# Altium integrated library Actel Fusion.IntLib: 336 symbols (part 45 of 72)
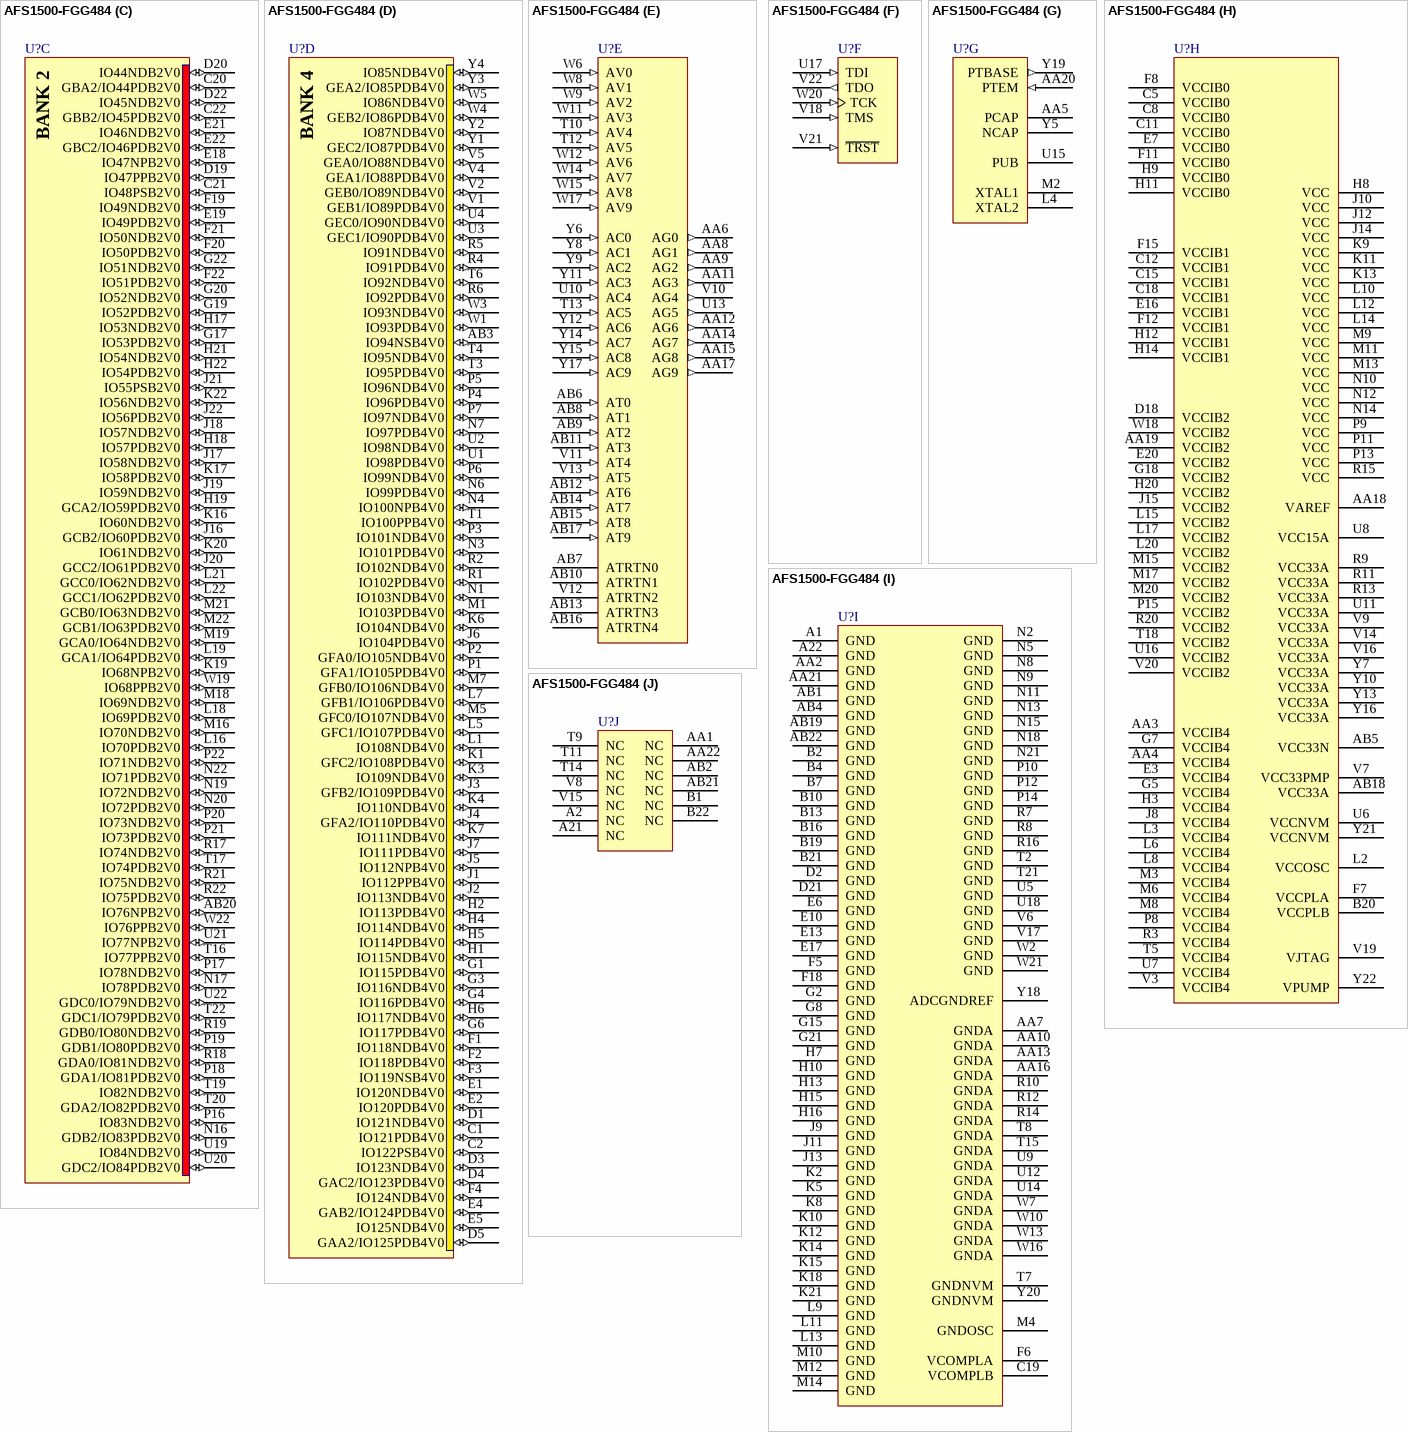
[diagram p321: symbol AFS1500-FGG484]

## AFS1500-FGG484
designator U?
3.3V Fusion Mixed Signal Flash FPGA, 1.5 Million System Gates, 484-Pin FBGA, Commercial Grade, Pb-Free; Published: 17-Aug-2007; LatestRevisionDate: 14-Dec-2007; LatestRevisionNote: Pin AB18 renamed to "VCC33A".; DatasheetVersion: ver1.7, Oct-2008; PackageVersion: v11.0, Feb-2009; PackageReference: FG484; Publisher: Altium Limited; PackageDescription: 484-Ball Fine Pitch Plastic Ball Grid Array (FG484) - Fully Populated; Code_JEDEC: MS-034-AAJ-1; Code_IPC: BGA100P22X22-484; ComponentLink1Description: Manufacturer Link; ComponentLink1URL: http://www.actel.com/products/fusion/; ComponentLink2Description: Datasheet; ComponentLink2URL: http://www.actel.com/documents/Fusion_DS.pdf; ComponentLink3Description: Packaging Specification; ComponentLink3URL: http://www.actel.com/documents/PckgMechDrwngs.pdf
footprint FG484 (BGA, 484-Leads, Body 23x23mm, Pitch 1mm)
3D model AFS1500-FG484 (484-Ball Fine Pitch Plastic Ball Grid Array (FG484) - Fully Populated)
signal-integrity model AFS1500_FG484 (Fusion)
part A pins: A3 GAA1/IO01PDB0V0 (io), A4 GAB0/IO02NDB0V0 (io), A5 GAB1/IO02PDB0V0 (io), A6 IO07NDB0V1 (io), A7 IO07PDB0V1 (io), A8 IO09PDB0V1 (io), A9 IO13NDB0V2 (io), A10 IO13PDB0V2 (io), B3 GAA0/IO01NDB0V0 (io), B5 IO04NDB0V0 (io), B6 IO04PDB0V0 (io), B8 IO09NDB0V1 (io), B9 IO11PDB0V1 (io), C3 IO00NDB0V0 (io), C4 IO00PDB0V0 (io), C6 IO05NDB0V1 (io), C7 IO05PDB0V1 (io), C9 IO11NDB0V1 (io), C10 IO14PDB0V2 (io), D6 GAC0/IO03NDB0V0 (io), D7 GAC1/IO03PDB0V0 (io), D8 IO10NDB0V1 (io), D9 IO10PDB0V1 (io), D10 IO14NDB0V2 (io), E8 IO08NDB0V1 (io), E9 IO08PDB0V1 (io), F9 IO12NDB0V1 (io), F10 IO12PDB0V1 (io), G9 IO06NDB0V1 (io), G10 IO06PDB0V1 (io), G11 IO16NDB0V2 (io), G12 IO16PDB0V2 (io)
part B pins: A11 IO24PDB1V0 (io), A12 IO26PDB1V0 (io), A13 IO27NDB1V1 (io), A14 IO27PDB1V1 (io), A15 IO35NDB1V2 (io), A16 IO35PDB1V2 (io), A17 GBC0/IO40NDB1V2 (io), A18 GBA0/IO42NDB1V2 (io), A19 IO43NDB1V2 (io), A20 IO43PDB1V2 (io), B11 IO24NDB1V0 (io), B12 IO26NDB1V0 (io), B14 IO31NDB1V1 (io), B15 IO31PDB1V1 (io), B17 GBC1/IO40PDB1V2 (io), B18 GBA1/IO42PDB1V2 (io), C13 IO29NDB1V1 (io), C14 IO29PDB1V1 (io), C16 IO37NDB1V2 (io), C17 GBB0/IO41NDB1V2 (io), D11 IO23NDB1V0 (io), D12 IO23PDB1V0 (io), D13 IO32NPB1V1 (io), D14 IO34NDB1V1 (io), D15 IO34PDB1V1 (io), D16 IO37PDB1V2 (io), D17 GBB1/IO41PDB1V2 (io), E11 IO22NDB1V0 (io), E12 IO22PDB1V0 (io), E14 IO32PPB1V1 (io), E15 IO36NPB1V2 (io), F13 IO30NDB1V1 (io), F14 IO30PDB1V1 (io), F16 IO36PPB1V2 (io), F17 IO38NPB1V2 (io), G13 IO28NDB1V1 (io), G14 IO28PDB1V1 (io), G16 IO38PPB1V2 (io)
part C pins: AB20 IO76NPB2V0 (io), C20 GBA2/IO44PDB2V0 (io), C21 IO48PSB2V0 (io), C22 GBB2/IO45PDB2V0 (io), D19 IO47PPB2V0 (io), D20 IO44NDB2V0 (io), D22 IO45NDB2V0 (io), E18 IO47NPB2V0 (io), E19 IO49PDB2V0 (io), E21 IO46NDB2V0 (io), E22 GBC2/IO46PDB2V0 (io), F19 IO49NDB2V0 (io), F20 IO50PDB2V0 (io), F21 IO50NDB2V0 (io), F22 IO51PDB2V0 (io), G17 IO53PDB2V0 (io), G19 IO52PDB2V0 (io), G20 IO52NDB2V0 (io), G22 IO51NDB2V0 (io), H17 IO53NDB2V0 (io), H18 IO57PDB2V0 (io), H19 GCA2/IO59PDB2V0 (io), H21 IO54NDB2V0 (io), H22 IO54PDB2V0 (io), J16 GCB2/IO60PDB2V0 (io), J17 IO58NDB2V0 (io), J18 IO57NDB2V0 (io), J19 IO59NDB2V0 (io), J20 GCC2/IO61PDB2V0 (io), J21 IO55PSB2V0 (io), J22 IO56PDB2V0 (io), K16 IO60NDB2V0 (io), K17 IO58PDB2V0 (io), K19 IO68NPB2V0 (io), K20 IO61NDB2V0 (io), K22 IO56NDB2V0 (io), L16 IO70PDB2V0 (io), L18 IO69PDB2V0 (io), L19 GCA1/IO64PDB2V0 (io), L21 GCC0/IO62NDB2V0 (io), L22 GCC1/IO62PDB2V0 (io), M16 IO70NDB2V0 (io), M18 IO69NDB2V0 (io), M19 GCA0/IO64NDB2V0 (io), M21 GCB0/IO63NDB2V0 (io), M22 GCB1/IO63PDB2V0 (io), N16 GDB2/IO83PDB2V0 (io), N17 IO78PDB2V0 (io), N19 IO72NDB2V0 (io), N20 IO72PDB2V0 (io), N22 IO71PDB2V0 (io), P16 IO83NDB2V0 (io), P17 IO78NDB2V0 (io), P18 GDA1/IO81PDB2V0 (io), P19 GDB1/IO80PDB2V0 (io), P20 IO73NDB2V0 (io), P21 IO73PDB2V0 (io), P22 IO71NDB2V0 (io), R17 IO74NDB2V0 (io), R18 GDA0/IO81NDB2V0 (io), R19 GDB0/IO80NDB2V0 (io), R21 IO75NDB2V0 (io), R22 IO75PDB2V0 (io), T16 IO77PPB2V0 (io), T17 IO74PDB2V0 (io), T19 IO82NDB2V0 (io), T20 GDA2/IO82PDB2V0 (io), T22 GDC1/IO79PDB2V0 (io), U19 IO84NDB2V0 (io), U20 GDC2/IO84PDB2V0 (io), U21 IO77NPB2V0 (io), U22 GDC0/IO79NDB2V0 (io), W19 IO68PPB2V0 (io), W22 IO76PPB2V0 (io)
part D pins: AB3 IO94NSB4V0 (io), C1 IO121PDB4V0 (io), C2 IO122PSB4V0 (io), D1 IO121NDB4V0 (io), D3 IO123NDB4V0 (io), D4 GAC2/IO123PDB4V0 (io), D5 GAA2/IO125PDB4V0 (io), E1 IO120NDB4V0 (io), E2 IO120PDB4V0 (io), E4 GAB2/IO124PDB4V0 (io), E5 IO125NDB4V0 (io), F1 IO118NDB4V0 (io), F2 IO118PDB4V0 (io), F3 IO119NSB4V0 (io), F4 IO124NDB4V0 (io), G1 IO115PDB4V0 (io), G3 IO116NDB4V0 (io), G4 IO116PDB4V0 (io), G6 IO117PDB4V0 (io), H1 IO115NDB4V0 (io), H2 IO113PDB4V0 (io), H4 IO114NDB4V0 (io), H5 IO114PDB4V0 (io), H6 IO117NDB4V0 (io), J1 IO112PPB4V0 (io), J2 IO113NDB4V0 (io), J3 GFB2/IO109PDB4V0 (io), J4 GFA2/IO110PDB4V0 (io), J5 IO112NPB4V0 (io), J6 IO104PDB4V0 (io), J7 IO111PDB4V0 (io), K1 GFC2/IO108PDB4V0 (io), K3 IO109NDB4V0 (io), K4 IO110NDB4V0 (io), K6 IO104NDB4V0 (io), K7 IO111NDB4V0 (io), L1 IO108NDB4V0 (io), L5 GFC1/IO107PDB4V0 (io), L7 GFB1/IO106PDB4V0 (io), M1 IO103PDB4V0 (io), M5 GFC0/IO107NDB4V0 (io), M7 GFB0/IO106NDB4V0 (io), N1 IO103NDB4V0 (io), N3 IO101PDB4V0 (io), N4 IO100NPB4V0 (io), N6 IO99PDB4V0 (io), N7 IO97PDB4V0 (io), P1 GFA1/IO105PDB4V0 (io), P2 GFA0/IO105NDB4V0 (io), P3 IO101NDB4V0 (io), P4 IO96PDB4V0 (io), P5 IO96NDB4V0 (io), P6 IO99NDB4V0 (io), P7 IO97NDB4V0 (io), R1 IO102PDB4V0 (io), R2 IO102NDB4V0 (io), R4 IO91PDB4V0 (io), R5 IO91NDB4V0 (io), R6 IO92PDB4V0 (io), T1 IO100PPB4V0 (io), T3 IO95PDB4V0 (io), T4 IO95NDB4V0 (io), T6 IO92NDB4V0 (io), U1 IO98PDB4V0 (io), U2 IO98NDB4V0 (io), U3 GEC1/IO90PDB4V0 (io), U4 GEC0/IO90NDB4V0 (io), V1 GEB1/IO89PDB4V0 (io), V2 GEB0/IO89NDB4V0 (io), V4 GEA1/IO88PDB4V0 (io), V5 GEA0/IO88NDB4V0 (io), W1 IO93PDB4V0 (io), W3 IO93NDB4V0 (io), W4 GEB2/IO86PDB4V0 (io), W5 IO86NDB4V0 (io), Y1 GEC2/IO87PDB4V0 (io), Y2 IO87NDB4V0 (io), Y3 GEA2/IO85PDB4V0 (io), Y4 IO85NDB4V0 (io)
part E pins: AA6 AG0 (out) "Analog gate driver pad 0.", AA8 AG1 (out) "Analog gate driver pad 1.", AA9 AG2 (out) "Analog gate driver pad 2.", AA11 AG3 (out) "Analog gate driver pad 3.", AA12 AG6 (out) "Analog gate driver pad 6.", AA14 AG7 (out) "Analog gate driver pad 7.", AA15 AG8 (out) "Analog gate driver pad 8.", AA17 AG9 (out) "Analog gate driver pad 9.", AB6 AT0 (in) "Analog temperature pad 0.", AB7 ATRTN0 "Temperature monitor return 0.", AB8 AT1 (in) "Analog temperature pad 1.", AB9 AT2 (in) "Analog temperature pad 2.", AB10 ATRTN1 "Temperature monitor return 1.", AB11 AT3 (in) "Analog temperature pad 3.", AB12 AT6 (in) "Analog temperature pad 6.", AB13 ATRTN3 "Temperature monitor return 3.", AB14 AT7 (in) "Analog temperature pad 7.", AB15 AT8 (in) "Analog temperature pad 8.", AB16 ATRTN4 "Temperature monitor return 4.", AB17 AT9 (in) "Analog temperature pad 9.", T10 AV4 (in) "Analog voltage pad 4.", T12 AV5 (in) "Analog voltage pad 5.", T13 AC5 (in) "Analog current pad 5.", U10 AC4 (in) "Analog current pad 4.", U13 AG5 (out) "Analog gate driver pad 5.", V10 AG4 (out) "Analog gate driver pad 4.", V11 AT4 (in) "Analog temperature pad 4.", V12 ATRTN2 "Temperature monitor return 2.", V13 AT5 (in) "Analog temperature pad 5.", W6 AV0 (in) "Analog voltage pad 0.", W8 AV1 (in) "Analog voltage pad 1.", W9 AV2 (in) "Analog voltage pad 2.", W11 AV3 (in) "Analog voltage pad 3.", W12 AV6 (in) "Analog voltage pad 6.", W14 AV7 (in) "Analog voltage pad 7.", W15 AV8 (in) "Analog voltage pad 8.", W17 AV9 (in) "Analog voltage pad 9.", Y6 AC0 (in) "Analog current pad 0.", Y8 AC1 (in) "Analog current pad 1.", Y9 AC2 (in) "Analog current pad 2.", Y11 AC3 (in) "Analog current pad 3.", Y12 AC6 (in) "Analog current pad 6.", Y14 AC7 (in) "Analog current pad 7.", Y15 AC8 (in) "Analog current pad 8.", Y17 AC9 (in) "Analog current pad 9."
part F pins: U17 TDI (in), V18 TMS (in), V21 ~{TRST} (in), V22 TDO (out), W20 TCK (in)
part G pins: AA5 PCAP "POSITIVE CAPACITOR - where the positive terminal of the charge pump capacitor is connected.", AA20 PTEM (in) "PASS TRANSISTOR EMITTER - The feedback input of the voltage regulator.", L4 XTAL2 "Input to crystal oscillator - If using external RC network or clock input, XTAL1 should be used and XTAL2 left unconnected.", M2 XTAL1 "Input to crystal oscillator - If using external RC network or clock input, XTAL1 should be used and XTAL2 left unconnected.", U15 PUB "Power up bar - for the external momentary switch which turns on the 1.5V regulator.", Y5 NCAP "NEGATIVE CAPACITOR - where the negative terminal of the charge pump capacitor is connected.", Y19 PTBASE (out) "PASS TRANSISTOR BASE - The control signal of the voltage regulator."
part H pins: AA3 VCCIB4 (power) "Quiet supply voltage to the input buffers of bank 4.", AA4 VCCIB4 (power), AA18 VAREF (power) "Analog reference voltage to be used by analog to digital converter.", AA19 VCCIB2 (power), AB5 VCC33N (power) "-3.3V output from the voltage converter. A 2.2µF capacitor must be connected from this pin to ground.", AB18 VCC33A (power) "Analog power pin for the analog power supply low pass filter. An external 1µF capacitor should be connected between this pin and ground.", B20 VCCPLB (power), C5 VCCIB0 (power), C8 VCCIB0 (power), C11 VCCIB0 (power), C12 VCCIB1 (power), C15 VCCIB1 (power), C18 VCCIB1 (power), D18 VCCIB2 (power) "Quiet supply voltage to the input buffers of bank 2.", E3 VCCIB4 (power), E7 VCCIB0 (power), E16 VCCIB1 (power), E20 VCCIB2 (power), F7 VCCPLA (power), F8 VCCIB0 (power) "Quiet supply voltage to the input buffers of bank 0.", F11 VCCIB0 (power), F12 VCCIB1 (power), F15 VCCIB1 (power) "Quiet supply voltage to the input buffers of bank 1.", G5 VCCIB4 (power), G7 VCCIB4 (power) "Quiet supply voltage to the input buffers of bank 4.", G18 VCCIB2 (power), H3 VCCIB4 (power), H8 VCC (power), H9 VCCIB0 (power), H11 VCCIB0 (power), H12 VCCIB1 (power), H14 VCCIB1 (power), H20 VCCIB2 (power), J8 VCCIB4 (power), J10 VCC (power), J12 VCC (power), J14 VCC (power), J15 VCCIB2 (power), K9 VCC (power), K11 VCC (power), K13 VCC (power), L2 VCCOSC (power), L3 VCCIB4 (power), L6 VCCIB4 (power), L8 VCCIB4 (power), L10 VCC (power), L12 VCC (power), L14 VCC (power), L15 VCCIB2 (power), L17 VCCIB2 (power), L20 VCCIB2 (power), M3 VCCIB4 (power), M6 VCCIB4 (power), M8 VCCIB4 (power), M9 VCC (power), M11 VCC (power), M13 VCC (power), M15 VCCIB2 (power), M17 VCCIB2 (power), M20 VCCIB2 (power), N10 VCC (power), N12 VCC (power), N14 VCC (power), P8 VCCIB4 (power), P9 VCC (power), P11 VCC (power), P13 VCC (power), P15 VCCIB2 (power), R3 VCCIB4 (power), R9 VCC33A (power), R11 VCC33A (power), R13 VCC33A (power), R15 VCC (power), R20 VCCIB2 (power), T5 VCCIB4 (power), T18 VCCIB2 (power), U6 VCCNVM (power) "1.5V power supply used by the Fusion device's Flash memory block module(s).", U7 VCCIB4 (power), U8 VCC15A (power), U11 VCC33A (power), U16 VCCIB2 (power), V3 VCCIB4 (power), V7 VCC33PMP (power) "3.3V clean analog power supply input for use by the analog charge pump.", V9 VCC33A (power), V14 VCC33A (power), V16 VCC33A (power), V19 VJTAG (power), V20 VCCIB2 (power), W18 VCCIB2 (power) "Quiet supply voltage to the input buffers of bank 2.", Y7 VCC33A (power), Y10 VCC33A (power), Y13 VCC33A (power), Y16 VCC33A (power), Y21 VCCNVM (power) "1.5V power supply used by the Fusion device's Flash memory block module(s).", Y22 VPUMP (power)
part I pins: A1 GND (power), A22 GND (power), AA2 GND (power), AA7 GNDA (power), AA10 GNDA (power), AA13 GNDA (power), AA16 GNDA (power), AA21 GND (power), AB1 GND (power), AB4 GND (power), AB19 GND (power), AB22 GND (power), B2 GND (power), B4 GND (power), B7 GND (power), B10 GND (power), B13 GND (power), B16 GND (power), B19 GND (power), B21 GND (power), C19 VCOMPLB (power), D2 GND (power), D21 GND (power), E6 GND (power), E10 GND (power), E13 GND (power), E17 GND (power), F5 GND (power), F6 VCOMPLA (power), F18 GND (power), G2 GND (power), G8 GND (power), G15 GND (power), G21 GND (power), H7 GND (power), H10 GND (power), H13 GND (power), H15 GND (power), H16 GND (power), J9 GND (power), J11 GND (power), J13 GND (power), K2 GND (power), K5 GND (power), K8 GND (power), K10 GND (power), K12 GND (power), K14 GND (power), K15 GND (power), K18 GND (power), K21 GND (power), L9 GND (power), L11 GND (power), L13 GND (power), M4 GNDOSC (power) "Oscillator ground.", M10 GND (power), M12 GND (power), M14 GND (power), N2 GND (power), N5 GND (power), N8 GND (power), N9 GND (power), N11 GND (power), N13 GND (power), N15 GND (power), N18 GND (power), N21 GND (power), P10 GND (power), P12 GND (power), P14 GND (power), R7 GND (power), R8 GND (power), R10 GNDA (power), R12 GNDA (power), R14 GNDA (power), R16 GND (power), T2 GND (power), T7 GNDNVM (power) "Flash memory ground.", T8 GNDA (power), T15 GNDA (power), T21 GND (power), U5 GND (power), U9 GNDA (power), U12 GNDA (power), U14 GNDA (power), U18 GND (power), V6 GND (power), V17 GND (power), W2 GND (power), W7 GNDA (power), W10 GNDA (power), W13 GNDA (power), W16 GNDA (power), W21 GND (power), Y18 ADCGNDREF (power) "Analog ground reference used by the ADC.", Y20 GNDNVM (power) "Flash memory ground."
part J pins: A2 NC (power), A21 NC (power), AA1 NC (power), AA22 NC (power), AB2 NC (power), AB21 NC (power), B1 NC (power), B22 NC (power), T9 NC, T11 NC, T14 NC, V8 NC, V15 NC
part A text: BANK 0
part B text: BANK 1
part C text: BANK 2
part D text: BANK 4

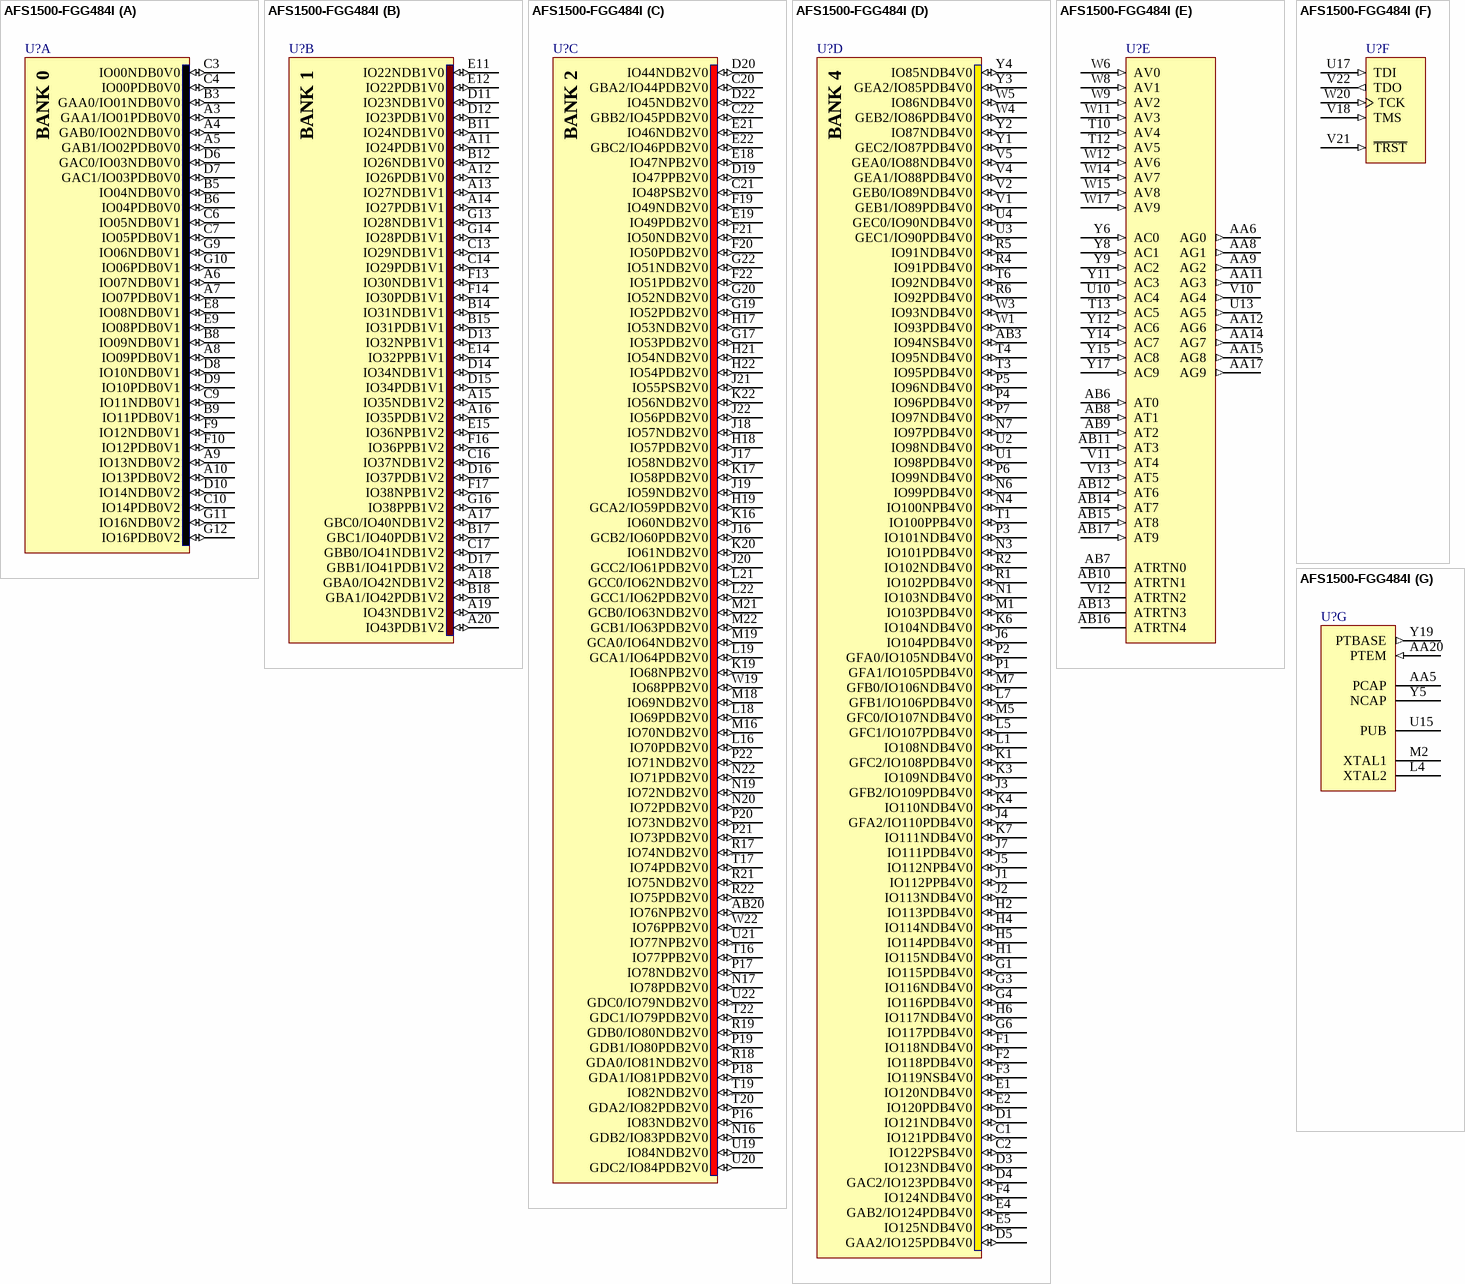
[diagram p137: symbol AFS1500-FGG484I]

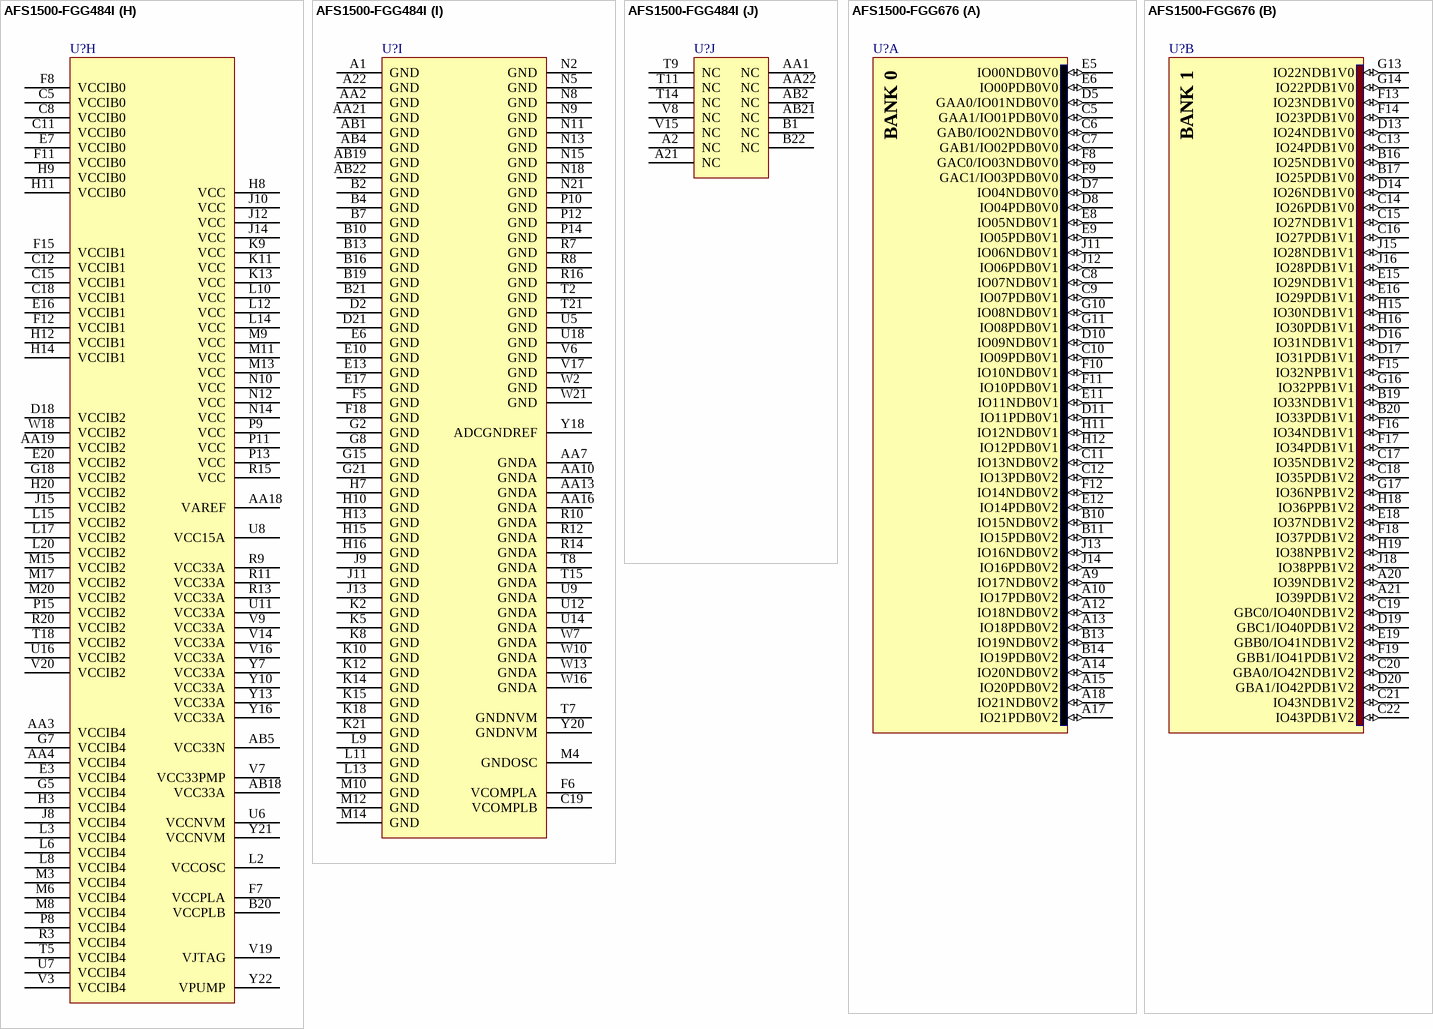
[diagram p138: symbols AFS1500-FGG484I to AFS1500-FGG676]

## AFS1500-FGG484I
designator U?
3.3V Fusion Mixed Signal Flash FPGA, 1.5 Million System Gates, 484-Pin FBGA, Industrial Grade, Pb-Free; Published: 17-Aug-2007; LatestRevisionDate: 14-Dec-2007; LatestRevisionNote: Pin AB18 renamed to "VCC33A".; DatasheetVersion: ver1.7, Oct-2008; PackageVersion: v11.0, Feb-2009; PackageReference: FG484; Publisher: Altium Limited; PackageDescription: 484-Ball Fine Pitch Plastic Ball Grid Array (FG484) - Fully Populated; Code_JEDEC: MS-034-AAJ-1; Code_IPC: BGA100P22X22-484; ComponentLink1Description: Manufacturer Link; ComponentLink1URL: http://www.actel.com/products/fusion/; ComponentLink2Description: Datasheet; ComponentLink2URL: http://www.actel.com/documents/Fusion_DS.pdf; ComponentLink3Description: Packaging Specification; ComponentLink3URL: http://www.actel.com/documents/PckgMechDrwngs.pdf
footprint FG484 (BGA, 484-Leads, Body 23x23mm, Pitch 1mm)
3D model AFS1500-FG484 (484-Ball Fine Pitch Plastic Ball Grid Array (FG484) - Fully Populated)
signal-integrity model AFS1500_FG484 (Fusion)
part A pins: A3 GAA1/IO01PDB0V0 (io), A4 GAB0/IO02NDB0V0 (io), A5 GAB1/IO02PDB0V0 (io), A6 IO07NDB0V1 (io), A7 IO07PDB0V1 (io), A8 IO09PDB0V1 (io), A9 IO13NDB0V2 (io), A10 IO13PDB0V2 (io), B3 GAA0/IO01NDB0V0 (io), B5 IO04NDB0V0 (io), B6 IO04PDB0V0 (io), B8 IO09NDB0V1 (io), B9 IO11PDB0V1 (io), C3 IO00NDB0V0 (io), C4 IO00PDB0V0 (io), C6 IO05NDB0V1 (io), C7 IO05PDB0V1 (io), C9 IO11NDB0V1 (io), C10 IO14PDB0V2 (io), D6 GAC0/IO03NDB0V0 (io), D7 GAC1/IO03PDB0V0 (io), D8 IO10NDB0V1 (io), D9 IO10PDB0V1 (io), D10 IO14NDB0V2 (io), E8 IO08NDB0V1 (io), E9 IO08PDB0V1 (io), F9 IO12NDB0V1 (io), F10 IO12PDB0V1 (io), G9 IO06NDB0V1 (io), G10 IO06PDB0V1 (io), G11 IO16NDB0V2 (io), G12 IO16PDB0V2 (io)
part B pins: A11 IO24PDB1V0 (io), A12 IO26PDB1V0 (io), A13 IO27NDB1V1 (io), A14 IO27PDB1V1 (io), A15 IO35NDB1V2 (io), A16 IO35PDB1V2 (io), A17 GBC0/IO40NDB1V2 (io), A18 GBA0/IO42NDB1V2 (io), A19 IO43NDB1V2 (io), A20 IO43PDB1V2 (io), B11 IO24NDB1V0 (io), B12 IO26NDB1V0 (io), B14 IO31NDB1V1 (io), B15 IO31PDB1V1 (io), B17 GBC1/IO40PDB1V2 (io), B18 GBA1/IO42PDB1V2 (io), C13 IO29NDB1V1 (io), C14 IO29PDB1V1 (io), C16 IO37NDB1V2 (io), C17 GBB0/IO41NDB1V2 (io), D11 IO23NDB1V0 (io), D12 IO23PDB1V0 (io), D13 IO32NPB1V1 (io), D14 IO34NDB1V1 (io), D15 IO34PDB1V1 (io), D16 IO37PDB1V2 (io), D17 GBB1/IO41PDB1V2 (io), E11 IO22NDB1V0 (io), E12 IO22PDB1V0 (io), E14 IO32PPB1V1 (io), E15 IO36NPB1V2 (io), F13 IO30NDB1V1 (io), F14 IO30PDB1V1 (io), F16 IO36PPB1V2 (io), F17 IO38NPB1V2 (io), G13 IO28NDB1V1 (io), G14 IO28PDB1V1 (io), G16 IO38PPB1V2 (io)
part C pins: AB20 IO76NPB2V0 (io), C20 GBA2/IO44PDB2V0 (io), C21 IO48PSB2V0 (io), C22 GBB2/IO45PDB2V0 (io), D19 IO47PPB2V0 (io), D20 IO44NDB2V0 (io), D22 IO45NDB2V0 (io), E18 IO47NPB2V0 (io), E19 IO49PDB2V0 (io), E21 IO46NDB2V0 (io), E22 GBC2/IO46PDB2V0 (io), F19 IO49NDB2V0 (io), F20 IO50PDB2V0 (io), F21 IO50NDB2V0 (io), F22 IO51PDB2V0 (io), G17 IO53PDB2V0 (io), G19 IO52PDB2V0 (io), G20 IO52NDB2V0 (io), G22 IO51NDB2V0 (io), H17 IO53NDB2V0 (io), H18 IO57PDB2V0 (io), H19 GCA2/IO59PDB2V0 (io), H21 IO54NDB2V0 (io), H22 IO54PDB2V0 (io), J16 GCB2/IO60PDB2V0 (io), J17 IO58NDB2V0 (io), J18 IO57NDB2V0 (io), J19 IO59NDB2V0 (io), J20 GCC2/IO61PDB2V0 (io), J21 IO55PSB2V0 (io), J22 IO56PDB2V0 (io), K16 IO60NDB2V0 (io), K17 IO58PDB2V0 (io), K19 IO68NPB2V0 (io), K20 IO61NDB2V0 (io), K22 IO56NDB2V0 (io), L16 IO70PDB2V0 (io), L18 IO69PDB2V0 (io), L19 GCA1/IO64PDB2V0 (io), L21 GCC0/IO62NDB2V0 (io), L22 GCC1/IO62PDB2V0 (io), M16 IO70NDB2V0 (io), M18 IO69NDB2V0 (io), M19 GCA0/IO64NDB2V0 (io), M21 GCB0/IO63NDB2V0 (io), M22 GCB1/IO63PDB2V0 (io), N16 GDB2/IO83PDB2V0 (io), N17 IO78PDB2V0 (io), N19 IO72NDB2V0 (io), N20 IO72PDB2V0 (io), N22 IO71PDB2V0 (io), P16 IO83NDB2V0 (io), P17 IO78NDB2V0 (io), P18 GDA1/IO81PDB2V0 (io), P19 GDB1/IO80PDB2V0 (io), P20 IO73NDB2V0 (io), P21 IO73PDB2V0 (io), P22 IO71NDB2V0 (io), R17 IO74NDB2V0 (io), R18 GDA0/IO81NDB2V0 (io), R19 GDB0/IO80NDB2V0 (io), R21 IO75NDB2V0 (io), R22 IO75PDB2V0 (io), T16 IO77PPB2V0 (io), T17 IO74PDB2V0 (io), T19 IO82NDB2V0 (io), T20 GDA2/IO82PDB2V0 (io), T22 GDC1/IO79PDB2V0 (io), U19 IO84NDB2V0 (io), U20 GDC2/IO84PDB2V0 (io), U21 IO77NPB2V0 (io), U22 GDC0/IO79NDB2V0 (io), W19 IO68PPB2V0 (io), W22 IO76PPB2V0 (io)
part D pins: AB3 IO94NSB4V0 (io), C1 IO121PDB4V0 (io), C2 IO122PSB4V0 (io), D1 IO121NDB4V0 (io), D3 IO123NDB4V0 (io), D4 GAC2/IO123PDB4V0 (io), D5 GAA2/IO125PDB4V0 (io), E1 IO120NDB4V0 (io), E2 IO120PDB4V0 (io), E4 GAB2/IO124PDB4V0 (io), E5 IO125NDB4V0 (io), F1 IO118NDB4V0 (io), F2 IO118PDB4V0 (io), F3 IO119NSB4V0 (io), F4 IO124NDB4V0 (io), G1 IO115PDB4V0 (io), G3 IO116NDB4V0 (io), G4 IO116PDB4V0 (io), G6 IO117PDB4V0 (io), H1 IO115NDB4V0 (io), H2 IO113PDB4V0 (io), H4 IO114NDB4V0 (io), H5 IO114PDB4V0 (io), H6 IO117NDB4V0 (io), J1 IO112PPB4V0 (io), J2 IO113NDB4V0 (io), J3 GFB2/IO109PDB4V0 (io), J4 GFA2/IO110PDB4V0 (io), J5 IO112NPB4V0 (io), J6 IO104PDB4V0 (io), J7 IO111PDB4V0 (io), K1 GFC2/IO108PDB4V0 (io), K3 IO109NDB4V0 (io), K4 IO110NDB4V0 (io), K6 IO104NDB4V0 (io), K7 IO111NDB4V0 (io), L1 IO108NDB4V0 (io), L5 GFC1/IO107PDB4V0 (io), L7 GFB1/IO106PDB4V0 (io), M1 IO103PDB4V0 (io), M5 GFC0/IO107NDB4V0 (io), M7 GFB0/IO106NDB4V0 (io), N1 IO103NDB4V0 (io), N3 IO101PDB4V0 (io), N4 IO100NPB4V0 (io), N6 IO99PDB4V0 (io), N7 IO97PDB4V0 (io), P1 GFA1/IO105PDB4V0 (io), P2 GFA0/IO105NDB4V0 (io), P3 IO101NDB4V0 (io), P4 IO96PDB4V0 (io), P5 IO96NDB4V0 (io), P6 IO99NDB4V0 (io), P7 IO97NDB4V0 (io), R1 IO102PDB4V0 (io), R2 IO102NDB4V0 (io), R4 IO91PDB4V0 (io), R5 IO91NDB4V0 (io), R6 IO92PDB4V0 (io), T1 IO100PPB4V0 (io), T3 IO95PDB4V0 (io), T4 IO95NDB4V0 (io), T6 IO92NDB4V0 (io), U1 IO98PDB4V0 (io), U2 IO98NDB4V0 (io), U3 GEC1/IO90PDB4V0 (io), U4 GEC0/IO90NDB4V0 (io), V1 GEB1/IO89PDB4V0 (io), V2 GEB0/IO89NDB4V0 (io), V4 GEA1/IO88PDB4V0 (io), V5 GEA0/IO88NDB4V0 (io), W1 IO93PDB4V0 (io), W3 IO93NDB4V0 (io), W4 GEB2/IO86PDB4V0 (io), W5 IO86NDB4V0 (io), Y1 GEC2/IO87PDB4V0 (io), Y2 IO87NDB4V0 (io), Y3 GEA2/IO85PDB4V0 (io), Y4 IO85NDB4V0 (io)
part E pins: AA6 AG0 (out) "Analog gate driver pad 0.", AA8 AG1 (out) "Analog gate driver pad 1.", AA9 AG2 (out) "Analog gate driver pad 2.", AA11 AG3 (out) "Analog gate driver pad 3.", AA12 AG6 (out) "Analog gate driver pad 6.", AA14 AG7 (out) "Analog gate driver pad 7.", AA15 AG8 (out) "Analog gate driver pad 8.", AA17 AG9 (out) "Analog gate driver pad 9.", AB6 AT0 (in) "Analog temperature pad 0.", AB7 ATRTN0 "Temperature monitor return 0.", AB8 AT1 (in) "Analog temperature pad 1.", AB9 AT2 (in) "Analog temperature pad 2.", AB10 ATRTN1 "Temperature monitor return 1.", AB11 AT3 (in) "Analog temperature pad 3.", AB12 AT6 (in) "Analog temperature pad 6.", AB13 ATRTN3 "Temperature monitor return 3.", AB14 AT7 (in) "Analog temperature pad 7.", AB15 AT8 (in) "Analog temperature pad 8.", AB16 ATRTN4 "Temperature monitor return 4.", AB17 AT9 (in) "Analog temperature pad 9.", T10 AV4 (in) "Analog voltage pad 4.", T12 AV5 (in) "Analog voltage pad 5.", T13 AC5 (in) "Analog current pad 5.", U10 AC4 (in) "Analog current pad 4.", U13 AG5 (out) "Analog gate driver pad 5.", V10 AG4 (out) "Analog gate driver pad 4.", V11 AT4 (in) "Analog temperature pad 4.", V12 ATRTN2 "Temperature monitor return 2.", V13 AT5 (in) "Analog temperature pad 5.", W6 AV0 (in) "Analog voltage pad 0.", W8 AV1 (in) "Analog voltage pad 1.", W9 AV2 (in) "Analog voltage pad 2.", W11 AV3 (in) "Analog voltage pad 3.", W12 AV6 (in) "Analog voltage pad 6.", W14 AV7 (in) "Analog voltage pad 7.", W15 AV8 (in) "Analog voltage pad 8.", W17 AV9 (in) "Analog voltage pad 9.", Y6 AC0 (in) "Analog current pad 0.", Y8 AC1 (in) "Analog current pad 1.", Y9 AC2 (in) "Analog current pad 2.", Y11 AC3 (in) "Analog current pad 3.", Y12 AC6 (in) "Analog current pad 6.", Y14 AC7 (in) "Analog current pad 7.", Y15 AC8 (in) "Analog current pad 8.", Y17 AC9 (in) "Analog current pad 9."
part F pins: U17 TDI (in), V18 TMS (in), V21 ~{TRST} (in), V22 TDO (out), W20 TCK (in)
part G pins: AA5 PCAP "POSITIVE CAPACITOR - where the positive terminal of the charge pump capacitor is connected.", AA20 PTEM (in) "PASS TRANSISTOR EMITTER - The feedback input of the voltage regulator.", L4 XTAL2 "Input to crystal oscillator - If using external RC network or clock input, XTAL1 should be used and XTAL2 left unconnected.", M2 XTAL1 "Input to crystal oscillator - If using external RC network or clock input, XTAL1 should be used and XTAL2 left unconnected.", U15 PUB "Power up bar - for the external momentary switch which turns on the 1.5V regulator.", Y5 NCAP "NEGATIVE CAPACITOR - where the negative terminal of the charge pump capacitor is connected.", Y19 PTBASE (out) "PASS TRANSISTOR BASE - The control signal of the voltage regulator."
part H pins: AA3 VCCIB4 (power) "Quiet supply voltage to the input buffers of bank 4.", AA4 VCCIB4 (power), AA18 VAREF (power) "Analog reference voltage to be used by analog to digital converter.", AA19 VCCIB2 (power), AB5 VCC33N (power) "-3.3V output from the voltage converter. A 2.2µF capacitor must be connected from this pin to ground.", AB18 VCC33A (power) "Analog power pin for the analog power supply low pass filter. An external 1µF capacitor should be connected between this pin and ground.", B20 VCCPLB (power), C5 VCCIB0 (power), C8 VCCIB0 (power), C11 VCCIB0 (power), C12 VCCIB1 (power), C15 VCCIB1 (power), C18 VCCIB1 (power), D18 VCCIB2 (power) "Quiet supply voltage to the input buffers of bank 2.", E3 VCCIB4 (power), E7 VCCIB0 (power), E16 VCCIB1 (power), E20 VCCIB2 (power), F7 VCCPLA (power), F8 VCCIB0 (power) "Quiet supply voltage to the input buffers of bank 0.", F11 VCCIB0 (power), F12 VCCIB1 (power), F15 VCCIB1 (power) "Quiet supply voltage to the input buffers of bank 1.", G5 VCCIB4 (power), G7 VCCIB4 (power) "Quiet supply voltage to the input buffers of bank 4.", G18 VCCIB2 (power), H3 VCCIB4 (power), H8 VCC (power), H9 VCCIB0 (power), H11 VCCIB0 (power), H12 VCCIB1 (power), H14 VCCIB1 (power), H20 VCCIB2 (power), J8 VCCIB4 (power), J10 VCC (power), J12 VCC (power), J14 VCC (power), J15 VCCIB2 (power), K9 VCC (power), K11 VCC (power), K13 VCC (power), L2 VCCOSC (power), L3 VCCIB4 (power), L6 VCCIB4 (power), L8 VCCIB4 (power), L10 VCC (power), L12 VCC (power), L14 VCC (power), L15 VCCIB2 (power), L17 VCCIB2 (power), L20 VCCIB2 (power), M3 VCCIB4 (power), M6 VCCIB4 (power), M8 VCCIB4 (power), M9 VCC (power), M11 VCC (power), M13 VCC (power), M15 VCCIB2 (power), M17 VCCIB2 (power), M20 VCCIB2 (power), N10 VCC (power), N12 VCC (power), N14 VCC (power), P8 VCCIB4 (power), P9 VCC (power), P11 VCC (power), P13 VCC (power), P15 VCCIB2 (power), R3 VCCIB4 (power), R9 VCC33A (power), R11 VCC33A (power), R13 VCC33A (power), R15 VCC (power), R20 VCCIB2 (power), T5 VCCIB4 (power), T18 VCCIB2 (power), U6 VCCNVM (power) "1.5V power supply used by the Fusion device's Flash memory block module(s).", U7 VCCIB4 (power), U8 VCC15A (power), U11 VCC33A (power), U16 VCCIB2 (power), V3 VCCIB4 (power), V7 VCC33PMP (power) "3.3V clean analog power supply input for use by the analog charge pump.", V9 VCC33A (power), V14 VCC33A (power), V16 VCC33A (power), V19 VJTAG (power), V20 VCCIB2 (power), W18 VCCIB2 (power) "Quiet supply voltage to the input buffers of bank 2.", Y7 VCC33A (power), Y10 VCC33A (power), Y13 VCC33A (power), Y16 VCC33A (power), Y21 VCCNVM (power) "1.5V power supply used by the Fusion device's Flash memory block module(s).", Y22 VPUMP (power)
part I pins: A1 GND (power), A22 GND (power), AA2 GND (power), AA7 GNDA (power), AA10 GNDA (power), AA13 GNDA (power), AA16 GNDA (power), AA21 GND (power), AB1 GND (power), AB4 GND (power), AB19 GND (power), AB22 GND (power), B2 GND (power), B4 GND (power), B7 GND (power), B10 GND (power), B13 GND (power), B16 GND (power), B19 GND (power), B21 GND (power), C19 VCOMPLB (power), D2 GND (power), D21 GND (power), E6 GND (power), E10 GND (power), E13 GND (power), E17 GND (power), F5 GND (power), F6 VCOMPLA (power), F18 GND (power), G2 GND (power), G8 GND (power), G15 GND (power), G21 GND (power), H7 GND (power), H10 GND (power), H13 GND (power), H15 GND (power), H16 GND (power), J9 GND (power), J11 GND (power), J13 GND (power), K2 GND (power), K5 GND (power), K8 GND (power), K10 GND (power), K12 GND (power), K14 GND (power), K15 GND (power), K18 GND (power), K21 GND (power), L9 GND (power), L11 GND (power), L13 GND (power), M4 GNDOSC (power) "Oscillator ground.", M10 GND (power), M12 GND (power), M14 GND (power), N2 GND (power), N5 GND (power), N8 GND (power), N9 GND (power), N11 GND (power), N13 GND (power), N15 GND (power), N18 GND (power), N21 GND (power), P10 GND (power), P12 GND (power), P14 GND (power), R7 GND (power), R8 GND (power), R10 GNDA (power), R12 GNDA (power), R14 GNDA (power), R16 GND (power), T2 GND (power), T7 GNDNVM (power) "Flash memory ground.", T8 GNDA (power), T15 GNDA (power), T21 GND (power), U5 GND (power), U9 GNDA (power), U12 GNDA (power), U14 GNDA (power), U18 GND (power), V6 GND (power), V17 GND (power), W2 GND (power), W7 GNDA (power), W10 GNDA (power), W13 GNDA (power), W16 GNDA (power), W21 GND (power), Y18 ADCGNDREF (power) "Analog ground reference used by the ADC.", Y20 GNDNVM (power) "Flash memory ground."
part J pins: A2 NC (power), A21 NC (power), AA1 NC (power), AA22 NC (power), AB2 NC (power), AB21 NC (power), B1 NC (power), B22 NC (power), T9 NC, T11 NC, T14 NC, V8 NC, V15 NC
part A text: BANK 0
part B text: BANK 1
part C text: BANK 2
part D text: BANK 4

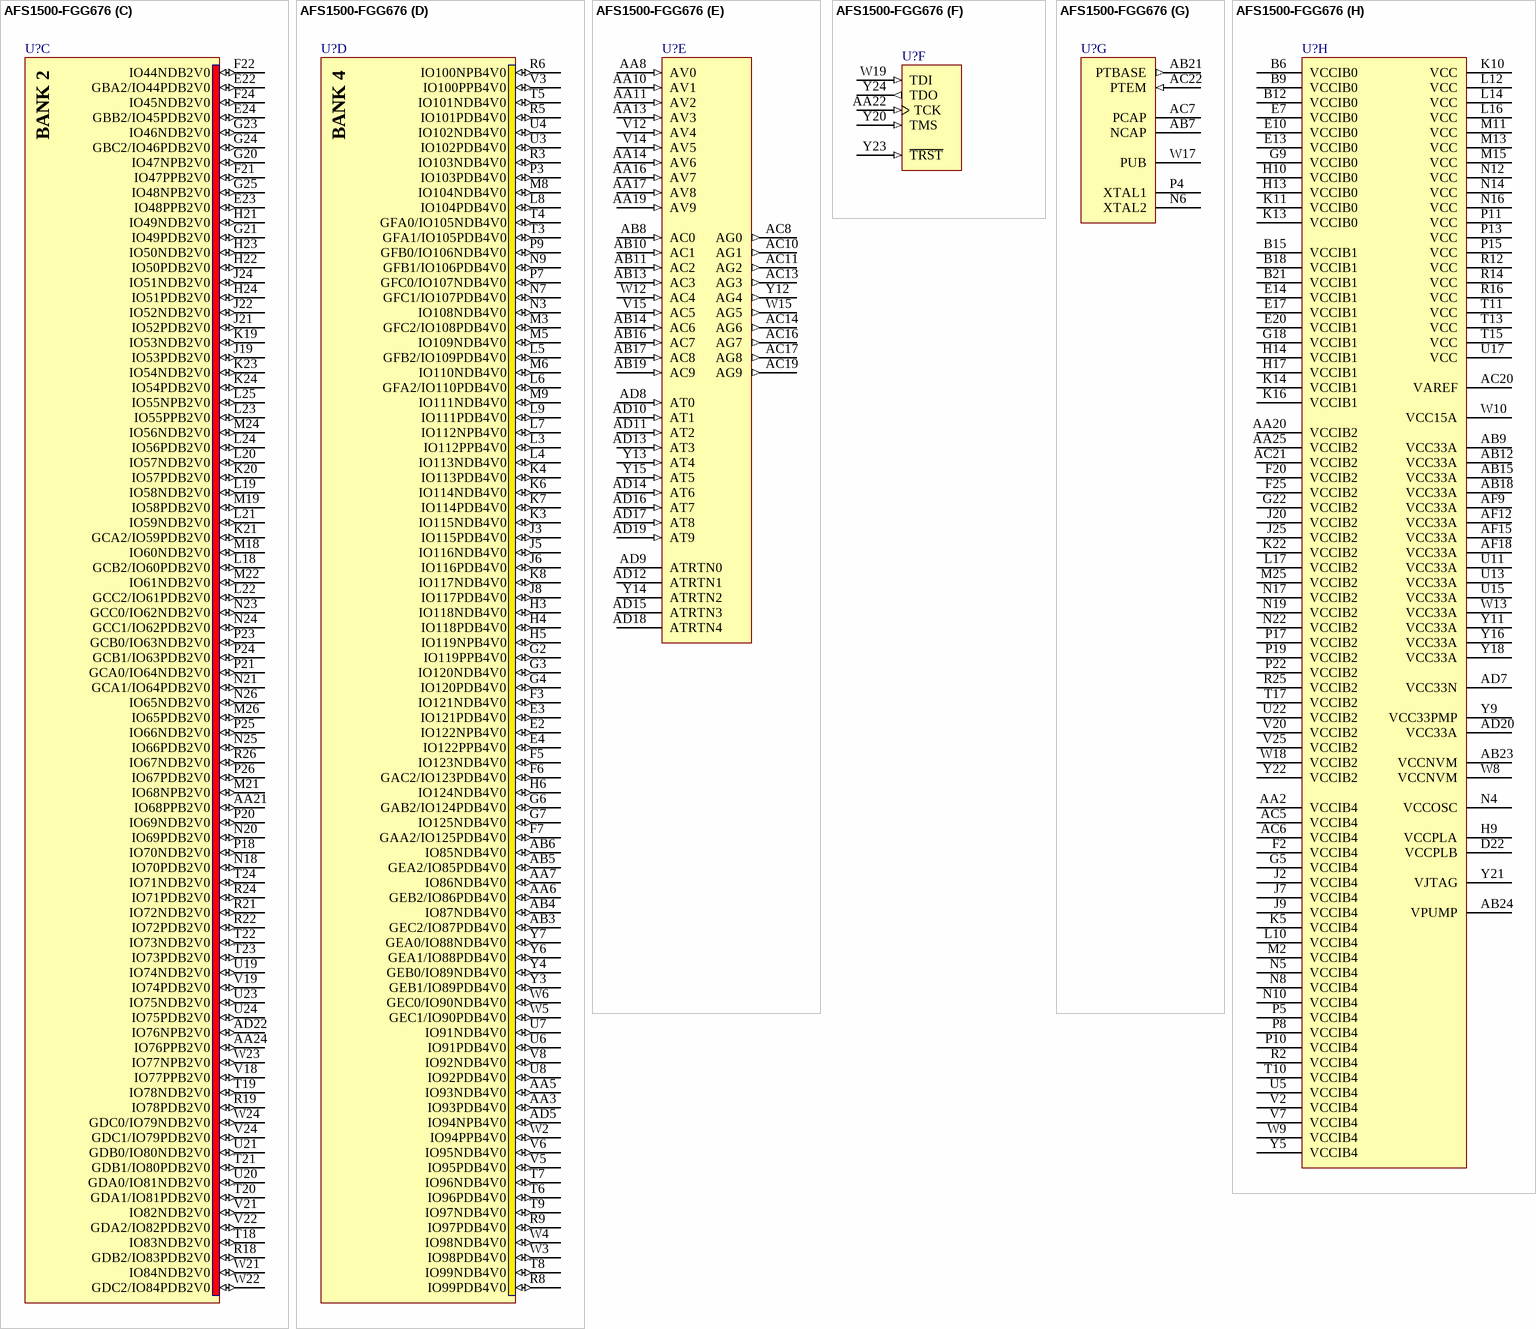
[diagram p139: symbol AFS1500-FGG676]

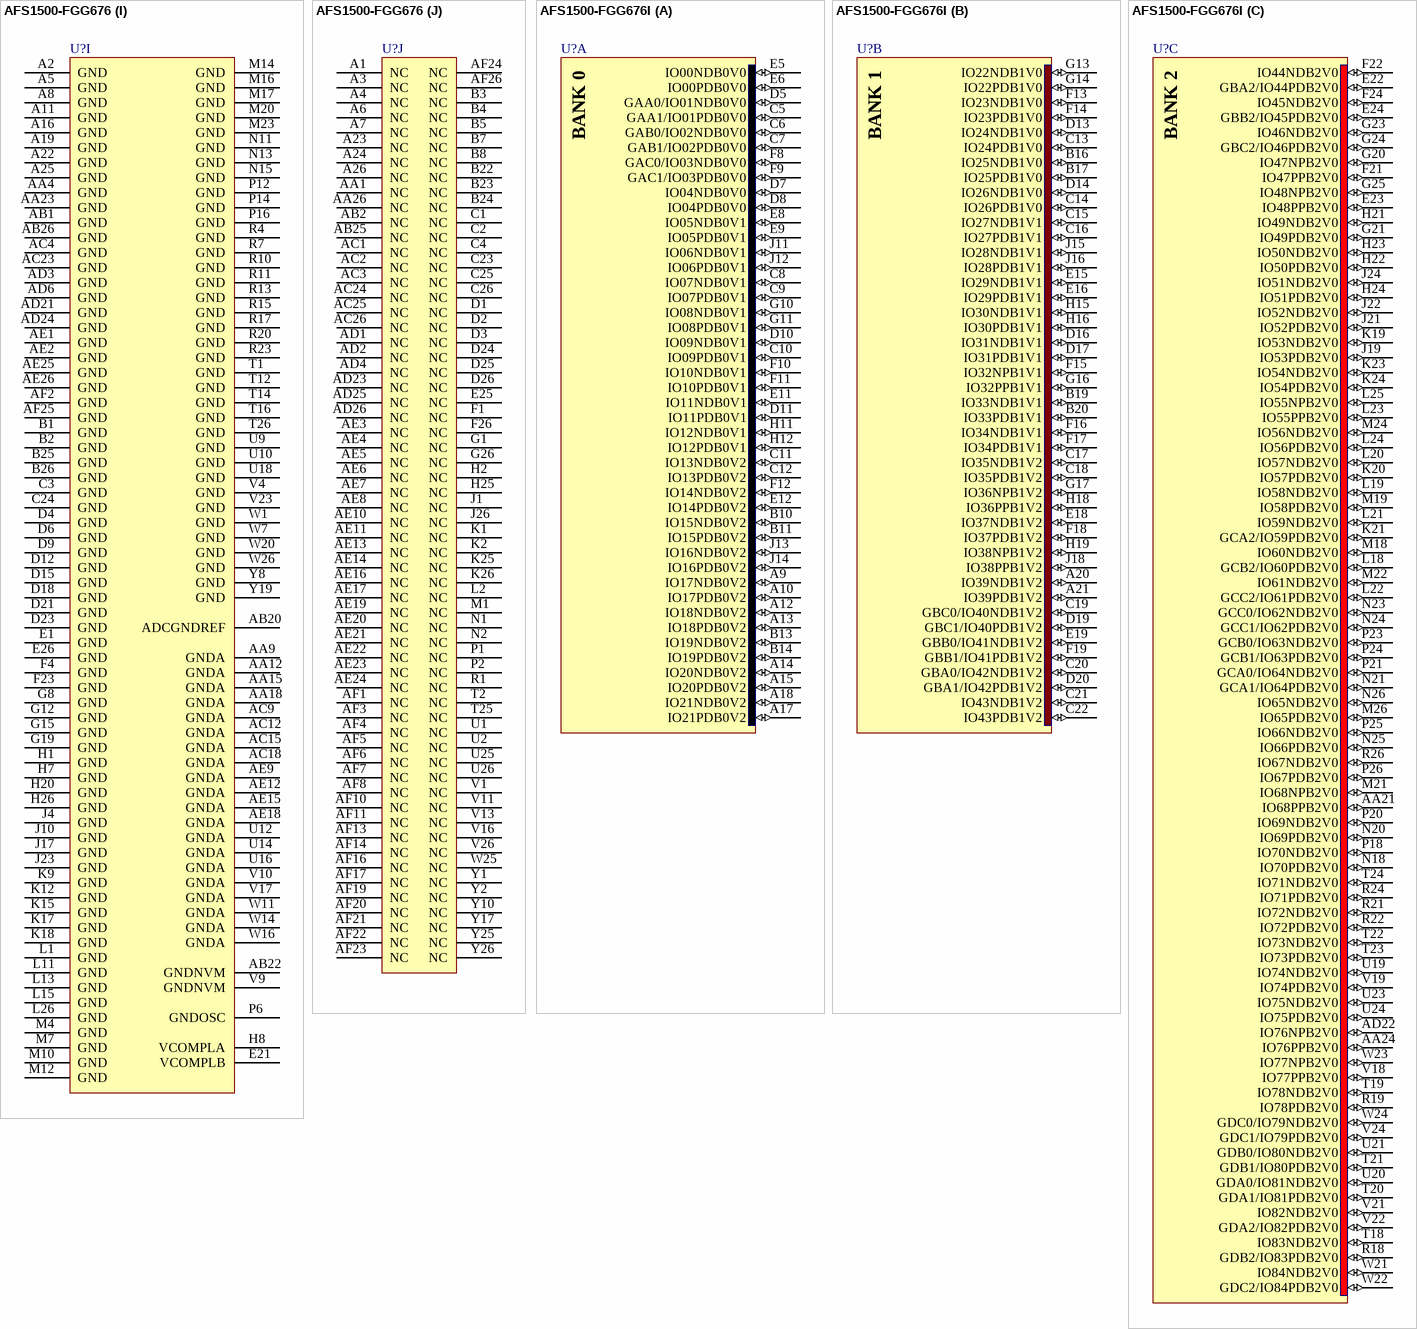
[diagram p140: symbols AFS1500-FGG676 to AFS1500-FGG676I]

## AFS1500-FGG676
designator U?
3.3V Fusion Mixed Signal Flash FPGA, 1.5 Million System Gates, 676-Pin FBGA, Commercial Grade, Pb-Free; Published: 17-Aug-2007; LatestRevisionDate: 14-Dec-2007; LatestRevisionNote: Pin AD20 renamed to "VCC33A".; DatasheetVersion: ver1.7, Oct-2008; PackageVersion: v11.0, Feb-2009; PackageReference: FG676; Publisher: Altium Limited; PackageDescription: 676-Ball Fine Pitch Plastic Ball Grid Array (FG676); Code_JEDEC: MS-034-AAL-1; Code_IPC: BGA100P26X26-676; ComponentLink1Description: Manufacturer Link; ComponentLink1URL: http://www.actel.com/products/fusion/; ComponentLink2Description: Datasheet; ComponentLink2URL: http://www.actel.com/documents/Fusion_DS.pdf; ComponentLink3Description: Packaging Specification; ComponentLink3URL: http://www.actel.com/documents/PckgMechDrwngs.pdf
footprint FG676 (BGA, 676-Leads, Body 27x27mm, Pitch 1mm)
3D model AFS1500-FG676 (676-Ball Fine Pitch Plastic Ball Grid Array (FG676))
signal-integrity model AFS1500_FG676 (Fusion)
part A pins: A9 IO17NDB0V2 (io), A10 IO17PDB0V2 (io), A12 IO18NDB0V2 (io), A13 IO18PDB0V2 (io), A14 IO20NDB0V2 (io), A15 IO20PDB0V2 (io), A17 IO21PDB0V2 (io), A18 IO21NDB0V2 (io), B10 IO15NDB0V2 (io), B11 IO15PDB0V2 (io), B13 IO19NDB0V2 (io), B14 IO19PDB0V2 (io), C5 GAA1/IO01PDB0V0 (io), C6 GAB0/IO02NDB0V0 (io), C7 GAB1/IO02PDB0V0 (io), C8 IO07NDB0V1 (io), C9 IO07PDB0V1 (io), C10 IO09PDB0V1 (io), C11 IO13NDB0V2 (io), C12 IO13PDB0V2 (io), D5 GAA0/IO01NDB0V0 (io), D7 IO04NDB0V0 (io), D8 IO04PDB0V0 (io), D10 IO09NDB0V1 (io), D11 IO11PDB0V1 (io), E5 IO00NDB0V0 (io), E6 IO00PDB0V0 (io), E8 IO05NDB0V1 (io), E9 IO05PDB0V1 (io), E11 IO11NDB0V1 (io), E12 IO14PDB0V2 (io), F8 GAC0/IO03NDB0V0 (io), F9 GAC1/IO03PDB0V0 (io), F10 IO10NDB0V1 (io), F11 IO10PDB0V1 (io), F12 IO14NDB0V2 (io), G10 IO08NDB0V1 (io), G11 IO08PDB0V1 (io), H11 IO12NDB0V1 (io), H12 IO12PDB0V1 (io), J11 IO06NDB0V1 (io), J12 IO06PDB0V1 (io), J13 IO16NDB0V2 (io), J14 IO16PDB0V2 (io)
part B pins: A20 IO39NDB1V2 (io), A21 IO39PDB1V2 (io), B16 IO25NDB1V0 (io), B17 IO25PDB1V0 (io), B19 IO33NDB1V1 (io), B20 IO33PDB1V1 (io), C13 IO24PDB1V0 (io), C14 IO26PDB1V0 (io), C15 IO27NDB1V1 (io), C16 IO27PDB1V1 (io), C17 IO35NDB1V2 (io), C18 IO35PDB1V2 (io), C19 GBC0/IO40NDB1V2 (io), C20 GBA0/IO42NDB1V2 (io), C21 IO43NDB1V2 (io), C22 IO43PDB1V2 (io), D13 IO24NDB1V0 (io), D14 IO26NDB1V0 (io), D16 IO31NDB1V1 (io), D17 IO31PDB1V1 (io), D19 GBC1/IO40PDB1V2 (io), D20 GBA1/IO42PDB1V2 (io), E15 IO29NDB1V1 (io), E16 IO29PDB1V1 (io), E18 IO37NDB1V2 (io), E19 GBB0/IO41NDB1V2 (io), F13 IO23NDB1V0 (io), F14 IO23PDB1V0 (io), F15 IO32NPB1V1 (io), F16 IO34NDB1V1 (io), F17 IO34PDB1V1 (io), F18 IO37PDB1V2 (io), F19 GBB1/IO41PDB1V2 (io), G13 IO22NDB1V0 (io), G14 IO22PDB1V0 (io), G16 IO32PPB1V1 (io), G17 IO36NPB1V2 (io), H15 IO30NDB1V1 (io), H16 IO30PDB1V1 (io), H18 IO36PPB1V2 (io), H19 IO38NPB1V2 (io), J15 IO28NDB1V1 (io), J16 IO28PDB1V1 (io), J18 IO38PPB1V2 (io)
part C pins: AA21 IO68PPB2V0 (io), AA24 IO76PPB2V0 (io), AD22 IO76NPB2V0 (io), E22 GBA2/IO44PDB2V0 (io), E23 IO48PPB2V0 (io), E24 GBB2/IO45PDB2V0 (io), F21 IO47PPB2V0 (io), F22 IO44NDB2V0 (io), F24 IO45NDB2V0 (io), G20 IO47NPB2V0 (io), G21 IO49PDB2V0 (io), G23 IO46NDB2V0 (io), G24 GBC2/IO46PDB2V0 (io), G25 IO48NPB2V0 (io), H21 IO49NDB2V0 (io), H22 IO50PDB2V0 (io), H23 IO50NDB2V0 (io), H24 IO51PDB2V0 (io), J19 IO53PDB2V0 (io), J21 IO52PDB2V0 (io), J22 IO52NDB2V0 (io), J24 IO51NDB2V0 (io), K19 IO53NDB2V0 (io), K20 IO57PDB2V0 (io), K21 GCA2/IO59PDB2V0 (io), K23 IO54NDB2V0 (io), K24 IO54PDB2V0 (io), L18 GCB2/IO60PDB2V0 (io), L19 IO58NDB2V0 (io), L20 IO57NDB2V0 (io), L21 IO59NDB2V0 (io), L22 GCC2/IO61PDB2V0 (io), L23 IO55PPB2V0 (io), L24 IO56PDB2V0 (io), L25 IO55NPB2V0 (io), M18 IO60NDB2V0 (io), M19 IO58PDB2V0 (io), M21 IO68NPB2V0 (io), M22 IO61NDB2V0 (io), M24 IO56NDB2V0 (io), M26 IO65PDB2V0 (io), N18 IO70PDB2V0 (io), N20 IO69PDB2V0 (io), N21 GCA1/IO64PDB2V0 (io), N23 GCC0/IO62NDB2V0 (io), N24 GCC1/IO62PDB2V0 (io), N25 IO66PDB2V0 (io), N26 IO65NDB2V0 (io), P18 IO70NDB2V0 (io), P20 IO69NDB2V0 (io), P21 GCA0/IO64NDB2V0 (io), P23 GCB0/IO63NDB2V0 (io), P24 GCB1/IO63PDB2V0 (io), P25 IO66NDB2V0 (io), P26 IO67PDB2V0 (io), R18 GDB2/IO83PDB2V0 (io), R19 IO78PDB2V0 (io), R21 IO72NDB2V0 (io), R22 IO72PDB2V0 (io), R24 IO71PDB2V0 (io), R26 IO67NDB2V0 (io), T18 IO83NDB2V0 (io), T19 IO78NDB2V0 (io), T20 GDA1/IO81PDB2V0 (io), T21 GDB1/IO80PDB2V0 (io), T22 IO73NDB2V0 (io), T23 IO73PDB2V0 (io), T24 IO71NDB2V0 (io), U19 IO74NDB2V0 (io), U20 GDA0/IO81NDB2V0 (io), U21 GDB0/IO80NDB2V0 (io), U23 IO75NDB2V0 (io), U24 IO75PDB2V0 (io), V18 IO77PPB2V0 (io), V19 IO74PDB2V0 (io), V21 IO82NDB2V0 (io), V22 GDA2/IO82PDB2V0 (io), V24 GDC1/IO79PDB2V0 (io), W21 IO84NDB2V0 (io), W22 GDC2/IO84PDB2V0 (io), W23 IO77NPB2V0 (io), W24 GDC0/IO79NDB2V0 (io)
part D pins: AA3 IO93PDB4V0 (io), AA5 IO93NDB4V0 (io), AA6 GEB2/IO86PDB4V0 (io), AA7 IO86NDB4V0 (io), AB3 GEC2/IO87PDB4V0 (io), AB4 IO87NDB4V0 (io), AB5 GEA2/IO85PDB4V0 (io), AB6 IO85NDB4V0 (io), AD5 IO94NPB4V0 (io), E2 IO122NPB4V0 (io), E3 IO121PDB4V0 (io), E4 IO122PPB4V0 (io), F3 IO121NDB4V0 (io), F5 IO123NDB4V0 (io), F6 GAC2/IO123PDB4V0 (io), F7 GAA2/IO125PDB4V0 (io), G2 IO119PPB4V0 (io), G3 IO120NDB4V0 (io), G4 IO120PDB4V0 (io), G6 GAB2/IO124PDB4V0 (io), G7 IO125NDB4V0 (io), H3 IO118NDB4V0 (io), H4 IO118PDB4V0 (io), H5 IO119NPB4V0 (io), H6 IO124NDB4V0 (io), J3 IO115PDB4V0 (io), J5 IO116NDB4V0 (io), J6 IO116PDB4V0 (io), J8 IO117PDB4V0 (io), K3 IO115NDB4V0 (io), K4 IO113PDB4V0 (io), K6 IO114NDB4V0 (io), K7 IO114PDB4V0 (io), K8 IO117NDB4V0 (io), L3 IO112PPB4V0 (io), L4 IO113NDB4V0 (io), L5 GFB2/IO109PDB4V0 (io), L6 GFA2/IO110PDB4V0 (io), L7 IO112NPB4V0 (io), L8 IO104PDB4V0 (io), L9 IO111PDB4V0 (io), M3 GFC2/IO108PDB4V0 (io), M5 IO109NDB4V0 (io), M6 IO110NDB4V0 (io), M8 IO104NDB4V0 (io), M9 IO111NDB4V0 (io), N3 IO108NDB4V0 (io), N7 GFC1/IO107PDB4V0 (io), N9 GFB1/IO106PDB4V0 (io), P3 IO103PDB4V0 (io), P7 GFC0/IO107NDB4V0 (io), P9 GFB0/IO106NDB4V0 (io), R3 IO103NDB4V0 (io), R5 IO101PDB4V0 (io), R6 IO100NPB4V0 (io), R8 IO99PDB4V0 (io), R9 IO97PDB4V0 (io), T3 GFA1/IO105PDB4V0 (io), T4 GFA0/IO105NDB4V0 (io), T5 IO101NDB4V0 (io), T6 IO96PDB4V0 (io), T7 IO96NDB4V0 (io), T8 IO99NDB4V0 (io), T9 IO97NDB4V0 (io), U3 IO102PDB4V0 (io), U4 IO102NDB4V0 (io), U6 IO91PDB4V0 (io), U7 IO91NDB4V0 (io), U8 IO92PDB4V0 (io), V3 IO100PPB4V0 (io), V5 IO95PDB4V0 (io), V6 IO95NDB4V0 (io), V8 IO92NDB4V0 (io), W2 IO94PPB4V0 (io), W3 IO98PDB4V0 (io), W4 IO98NDB4V0 (io), W5 GEC1/IO90PDB4V0 (io), W6 GEC0/IO90NDB4V0 (io), Y3 GEB1/IO89PDB4V0 (io), Y4 GEB0/IO89NDB4V0 (io), Y6 GEA1/IO88PDB4V0 (io), Y7 GEA0/IO88NDB4V0 (io)
part E pins: AA8 AV0 (in), AA10 AV1 (in), AA11 AV2 (in), AA13 AV3 (in), AA14 AV6 (in), AA16 AV7 (in), AA17 AV8 (in), AA19 AV9 (in), AB8 AC0 (in), AB10 AC1 (in), AB11 AC2 (in), AB13 AC3 (in), AB14 AC6 (in), AB16 AC7 (in), AB17 AC8 (in), AB19 AC9 (in), AC8 AG0 (out), AC10 AG1 (out), AC11 AG2 (out), AC13 AG3 (out), AC14 AG6 (out), AC16 AG7 (out), AC17 AG8 (out), AC19 AG9 (out), AD8 AT0 (in), AD9 ATRTN0, AD10 AT1 (in), AD11 AT2 (in), AD12 ATRTN1, AD13 AT3 (in), AD14 AT6 (in), AD15 ATRTN3, AD16 AT7 (in), AD17 AT8 (in), AD18 ATRTN4, AD19 AT9 (in), V12 AV4 (in), V14 AV5 (in), V15 AC5 (in), W12 AC4 (in), W15 AG5 (out), Y12 AG4 (out), Y13 AT4 (in), Y14 ATRTN2, Y15 AT5 (in)
part F pins: AA22 TCK (in), W19 TDI (in), Y20 TMS (in), Y23 ~{TRST} (in), Y24 TDO (out)
part G pins: AB7 NCAP, AB21 PTBASE (out), AC7 PCAP, AC22 PTEM (in), N6 XTAL2, P4 XTAL1, W17 PUB
part H pins: AA2 VCCIB4 (power), AA20 VCCIB2 (power), AA25 VCCIB2 (power), AB9 VCC33A (power), AB12 VCC33A (power), AB15 VCC33A (power), AB18 VCC33A (power), AB23 VCCNVM (power), AB24 VPUMP (power), AC5 VCCIB4 (power), AC6 VCCIB4 (power), AC20 VAREF (power), AC21 VCCIB2 (power), AD7 VCC33N (power), AD20 VCC33A (power), AF9 VCC33A (power), AF12 VCC33A (power), AF15 VCC33A (power), AF18 VCC33A (power), B6 VCCIB0 (power), B9 VCCIB0 (power), B12 VCCIB0 (power), B15 VCCIB1 (power), B18 VCCIB1 (power), B21 VCCIB1 (power), D22 VCCPLB (power), E7 VCCIB0 (power), E10 VCCIB0 (power), E13 VCCIB0 (power), E14 VCCIB1 (power), E17 VCCIB1 (power), E20 VCCIB1 (power), F2 VCCIB4 (power), F20 VCCIB2 (power), F25 VCCIB2 (power), G5 VCCIB4 (power), G9 VCCIB0 (power), G18 VCCIB1 (power), G22 VCCIB2 (power), H9 VCCPLA (power), H10 VCCIB0 (power), H13 VCCIB0 (power), H14 VCCIB1 (power), H17 VCCIB1 (power), J2 VCCIB4 (power), J7 VCCIB4 (power), J9 VCCIB4 (power), J20 VCCIB2 (power), J25 VCCIB2 (power), K5 VCCIB4 (power), K10 VCC (power), K11 VCCIB0 (power), K13 VCCIB0 (power), K14 VCCIB1 (power), K16 VCCIB1 (power), K22 VCCIB2 (power), L10 VCCIB4 (power), L12 VCC (power), L14 VCC (power), L16 VCC (power), L17 VCCIB2 (power), M2 VCCIB4 (power), M11 VCC (power), M13 VCC (power), M15 VCC (power), M25 VCCIB2 (power), N4 VCCOSC (power), N5 VCCIB4 (power), N8 VCCIB4 (power), N10 VCCIB4 (power), N12 VCC (power), N14 VCC (power), N16 VCC (power), N17 VCCIB2 (power), N19 VCCIB2 (power), N22 VCCIB2 (power), P5 VCCIB4 (power), P8 VCCIB4 (power), P10 VCCIB4 (power), P11 VCC (power), P13 VCC (power), P15 VCC (power), P17 VCCIB2 (power), P19 VCCIB2 (power), P22 VCCIB2 (power), R2 VCCIB4 (power), R12 VCC (power), R14 VCC (power), R16 VCC (power), R25 VCCIB2 (power), T10 VCCIB4 (power), T11 VCC (power), T13 VCC (power), T15 VCC (power), T17 VCCIB2 (power), U5 VCCIB4 (power), U11 VCC33A (power), U13 VCC33A (power), U15 VCC33A (power), U17 VCC (power), U22 VCCIB2 (power), V2 VCCIB4 (power), V7 VCCIB4 (power), V20 VCCIB2 (power), V25 VCCIB2 (power), W8 VCCNVM (power), W9 VCCIB4 (power), W10 VCC15A (power), W13 VCC33A (power), W18 VCCIB2 (power), Y5 VCCIB4 (power), Y9 VCC33PMP (power), Y11 VCC33A (power), Y16 VCC33A (power), Y18 VCC33A (power), Y21 VJTAG (power), Y22 VCCIB2 (power)
part I pins: A2 GND (power), A5 GND (power), A8 GND (power), A11 GND (power), A16 GND (power), A19 GND (power), A22 GND (power), A25 GND (power), AA4 GND (power), AA9 GNDA (power), AA12 GNDA (power), AA15 GNDA (power), AA18 GNDA (power), AA23 GND (power), AB1 GND (power), AB20 ADCGNDREF (power), AB22 GNDNVM (power), AB26 GND (power), AC4 GND (power), AC9 GNDA (power), AC12 GNDA (power), AC15 GNDA (power), AC18 GNDA (power), AC23 GND (power), AD3 GND (power), AD6 GND (power), AD21 GND (power), AD24 GND (power), AE1 GND (power), AE2 GND (power), AE9 GNDA (power), AE12 GNDA (power), AE15 GNDA (power), AE18 GNDA (power), AE25 GND (power), AE26 GND (power), AF2 GND (power), AF25 GND (power), B1 GND (power), B2 GND (power), B25 GND (power), B26 GND (power), C3 GND (power), C24 GND (power), D4 GND (power), D6 GND (power), D9 GND (power), D12 GND (power), D15 GND (power), D18 GND (power), D21 GND (power), D23 GND (power), E1 GND (power), E21 VCOMPLB (power), E26 GND (power), F4 GND (power), F23 GND (power), G8 GND (power), G12 GND (power), G15 GND (power), G19 GND (power), H1 GND (power), H7 GND (power), H8 VCOMPLA (power), H20 GND (power), H26 GND (power), J4 GND (power), J10 GND (power), J17 GND (power), J23 GND (power), K9 GND (power), K12 GND (power), K15 GND (power), K17 GND (power), K18 GND (power), L1 GND (power), L11 GND (power), L13 GND (power), L15 GND (power), L26 GND (power), M4 GND (power), M7 GND (power), M10 GND (power), M12 GND (power), M14 GND (power), M16 GND (power), M17 GND (power), M20 GND (power), M23 GND (power), N11 GND (power), N13 GND (power), N15 GND (power), P6 GNDOSC (power), P12 GND (power), P14 GND (power), P16 GND (power), R4 GND (power), R7 GND (power), R10 GND (power), R11 GND (power), R13 GND (power), R15 GND (power), R17 GND (power), R20 GND (power), R23 GND (power), T1 GND (power), T12 GND (power), T14 GND (power), T16 GND (power), T26 GND (power), U9 GND (power), U10 GND (power), U12 GNDA (power), U14 GNDA (power), U16 GNDA (power), U18 GND (power), V4 GND (power), V9 GNDNVM (power), V10 GNDA (power), V17 GNDA (power), V23 GND (power), W1 GND (power), W7 GND (power), W11 GNDA (power), W14 GNDA (power), W16 GNDA (power), W20 GND (power), W26 GND (power), Y8 GND (power), Y19 GND (power)
part J pins: A1 NC, A3 NC, A4 NC, A6 NC, A7 NC, A23 NC, A24 NC, A26 NC, AA1 NC, AA26 NC, AB2 NC, AB25 NC, AC1 NC, AC2 NC, AC3 NC, AC24 NC, AC25 NC, AC26 NC, AD1 NC, AD2 NC, AD4 NC, AD23 NC, AD25 NC, AD26 NC, AE3 NC, AE4 NC, AE5 NC, AE6 NC, AE7 NC, AE8 NC, AE10 NC, AE11 NC, AE13 NC, AE14 NC, AE16 NC, AE17 NC, AE19 NC, AE20 NC, AE21 NC, AE22 NC, AE23 NC, AE24 NC, AF1 NC, AF3 NC, AF4 NC, AF5 NC, AF6 NC, AF7 NC, AF8 NC, AF10 NC, AF11 NC, AF13 NC, AF14 NC, AF16 NC, AF17 NC, AF19 NC, AF20 NC, AF21 NC, AF22 NC, AF23 NC, AF24 NC, AF26 NC, B3 NC, B4 NC, B5 NC, B7 NC, B8 NC, B22 NC, B23 NC, B24 NC, C1 NC, C2 NC, C4 NC, C23 NC, C25 NC, C26 NC, D1 NC, D2 NC, D3 NC, D24 NC, D25 NC, D26 NC, E25 NC, F1 NC, F26 NC, G1 NC, G26 NC, H2 NC, H25 NC, J1 NC, J26 NC, K1 NC, K2 NC, K25 NC, K26 NC, L2 NC, M1 NC, N1 NC, N2 NC, P1 NC, P2 NC, R1 NC, T2 NC, T25 NC, U1 NC, U2 NC, U25 NC, U26 NC, V1 NC, V11 NC, V13 NC, V16 NC, V26 NC, W25 NC, Y1 NC, Y2 NC, Y10 NC, Y17 NC, Y25 NC, Y26 NC
part A text: BANK 0
part B text: BANK 1
part C text: BANK 2
part D text: BANK 4

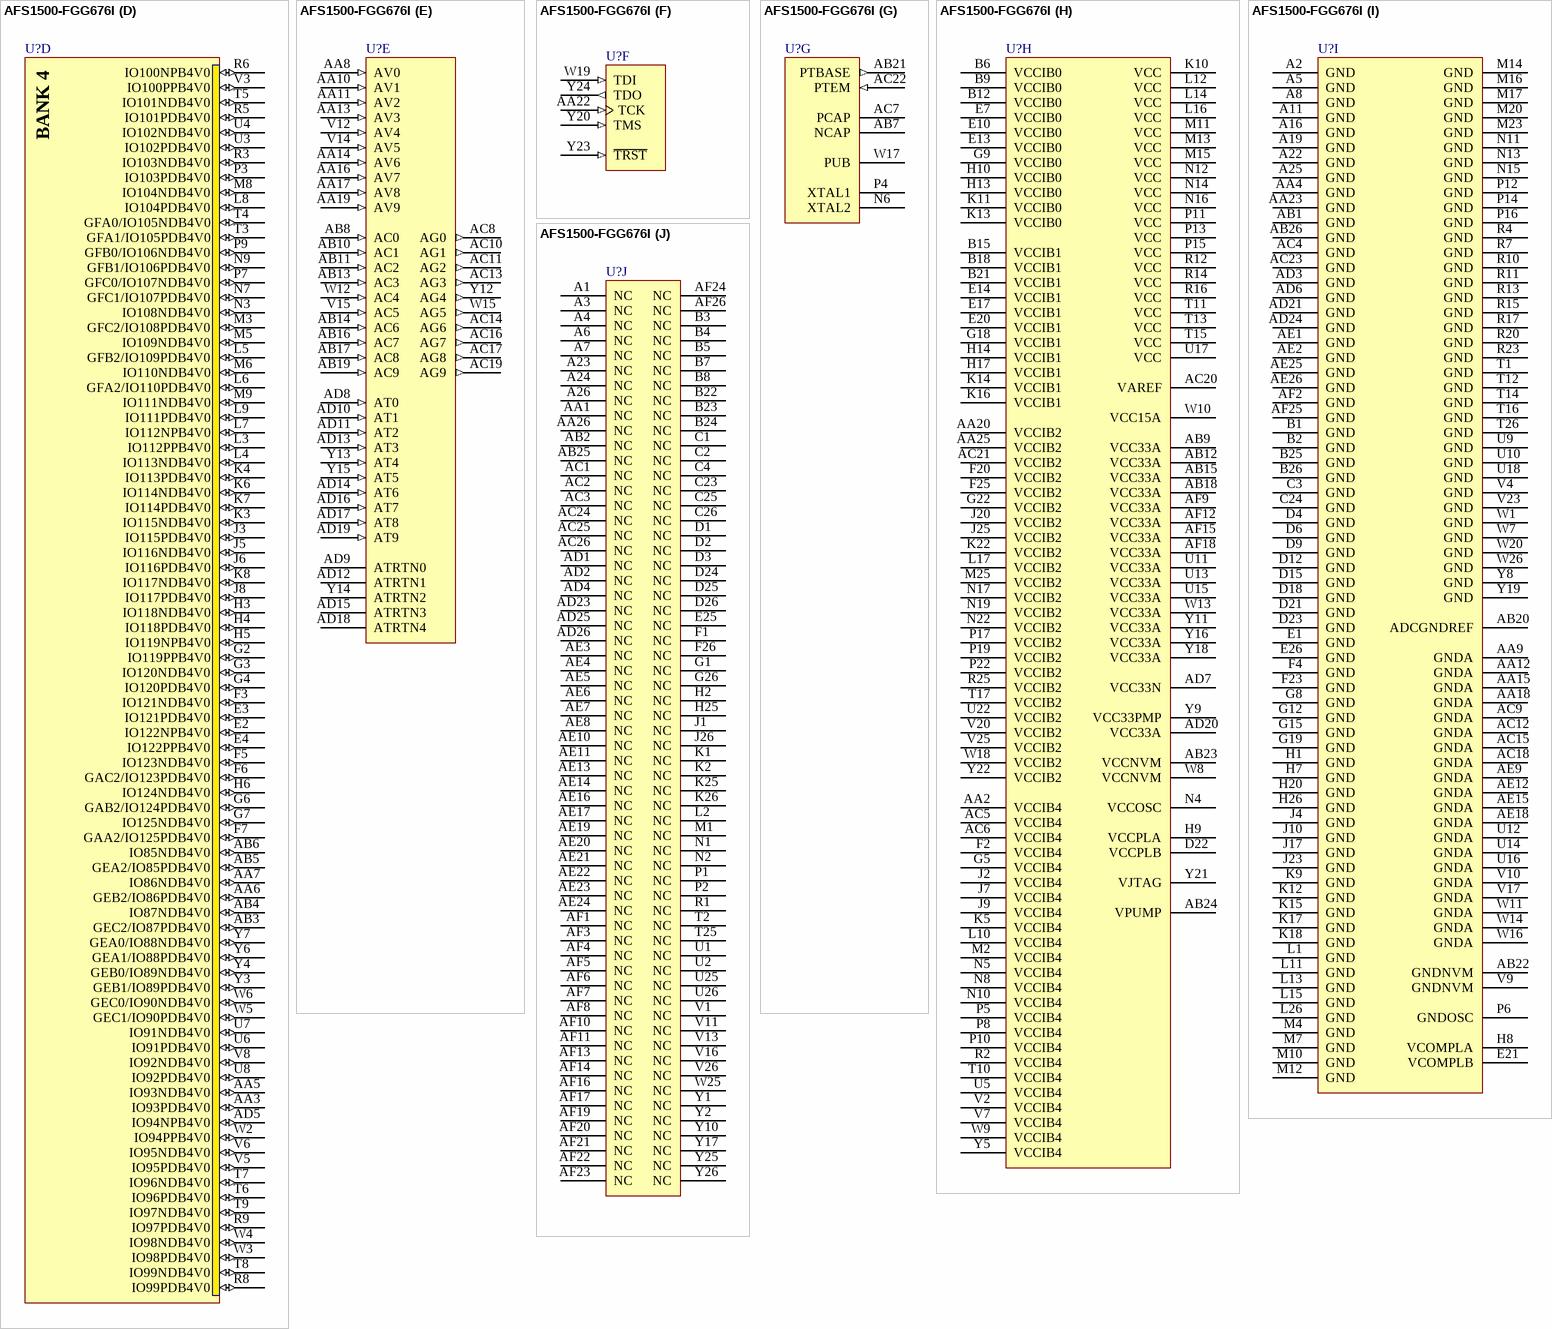
[diagram p141: symbol AFS1500-FGG676I]